# Altium schematic symbol library Target.Schlib: 1 symbol
Pins are listed as number, name and electrical type; pins without a type are passive.

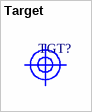
[diagram p0: symbol Target]

## Target
designator TGT?  (value not drawn)
=description